# Altium schematic symbol library my_Schlib.SchLib: 48 symbols
Pins are listed as number, name and electrical type; pins without a type are passive.

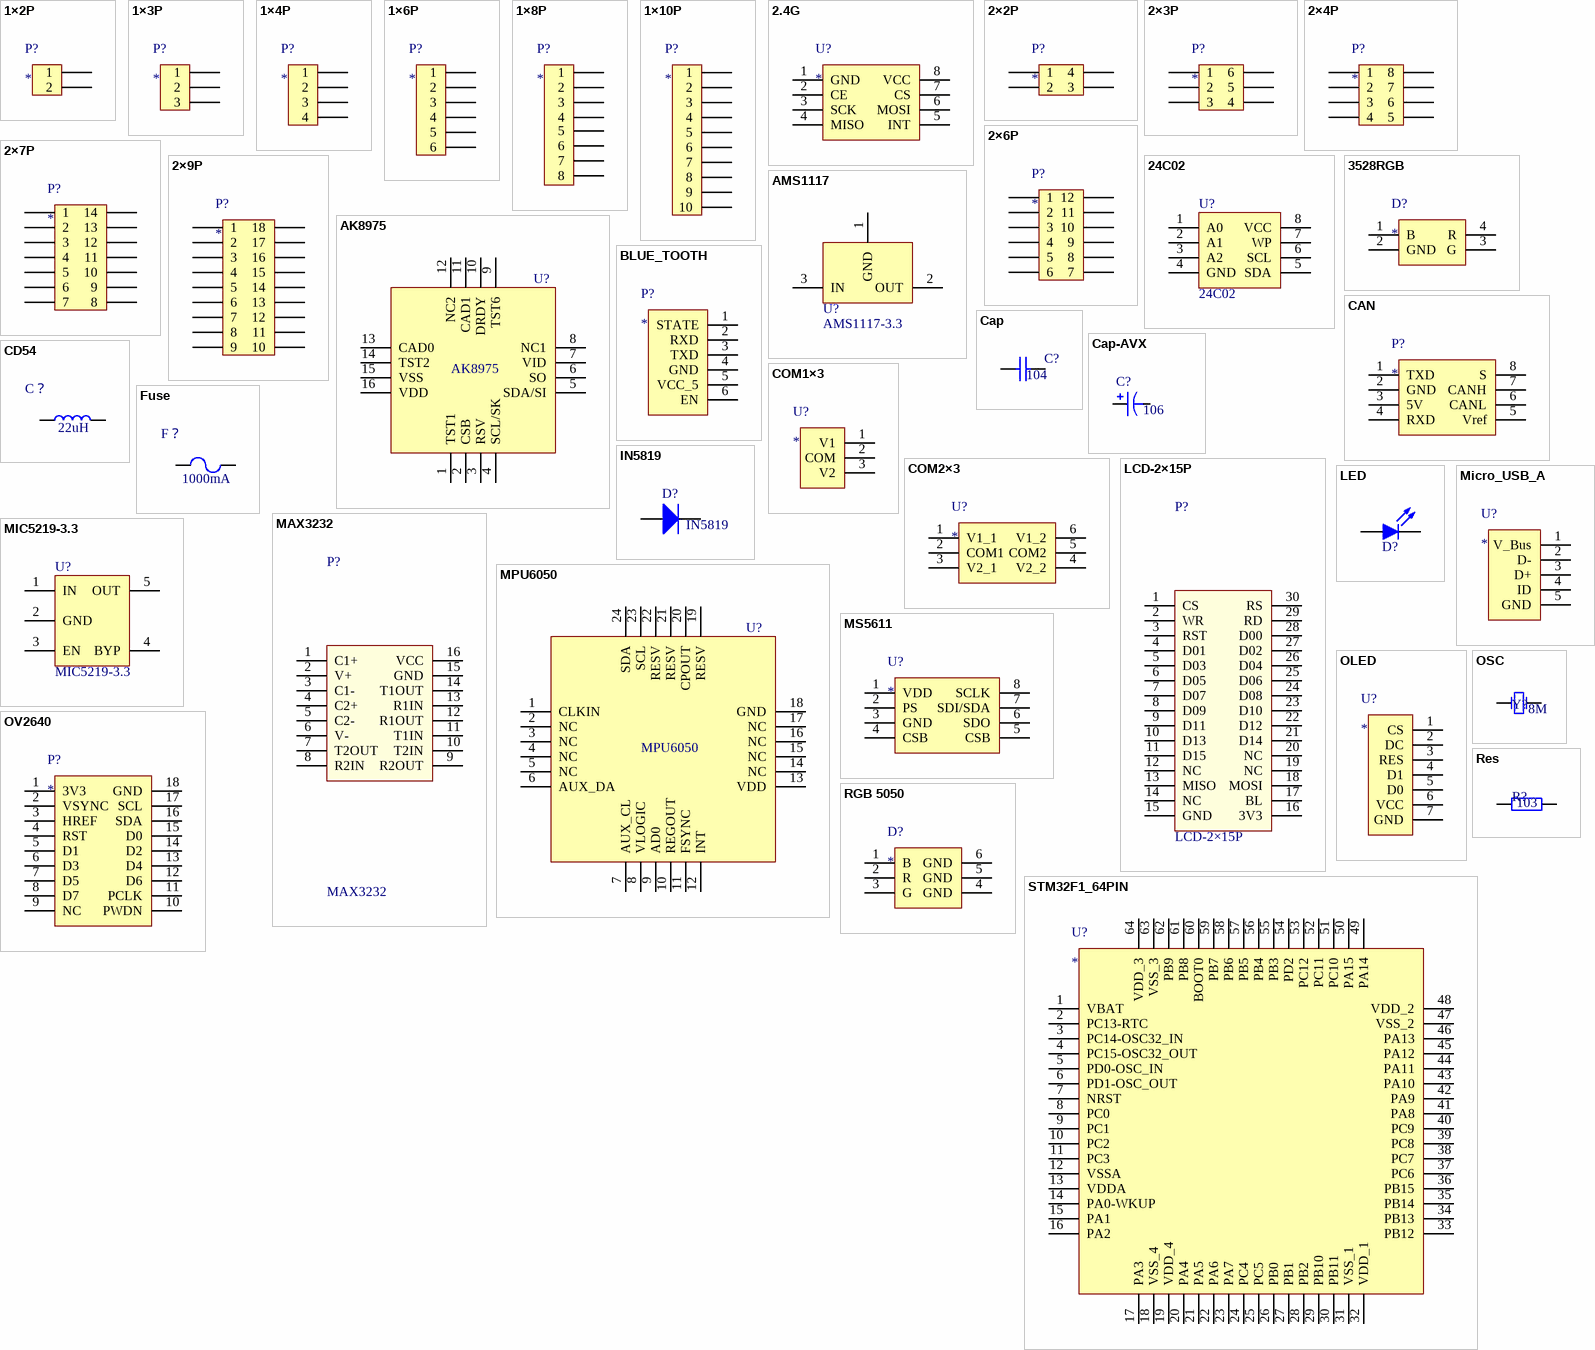
[diagram p0: symbols 1×2P to STM32F1_64PIN]

## 1×2P
designator P?
footprint 1×2P
pins: 1, 2

## 1×3P
designator P?
footprint 1×3P
pins: 1, 2, 3

## 1×4P
designator P?
footprint 1×4P_SG
footprint 1×4P
pins: 1, 2, 3, 4

## 1×6P
designator P?
footprint 1×6P
pins: 1, 2, 3, 4, 5, 6

## 1×8P
designator P?
footprint 1×8P_SG
pins: 1, 2, 3, 4, 5, 6, 7, 8

## 1×10P
designator P?
footprint 1×10P_SG
pins: 1, 2, 3, 4, 5, 6, 7, 8, 9, 10

## 2.4G
designator U?
footprint 2×4P _SG
pins: 1 GND, 2 CE, 3 SCK, 4 MISO, 5 INT, 6 MOSI, 7 CS, 8 VCC

## 2×2P
designator P?
footprint 2×2P
pins: 1, 2, 3, 4

## 2×3P
designator P?
footprint 2×3P
footprint 2×4P _SG
pins: 1, 2, 3, 4, 5, 6

## 2×4P
designator P?
footprint 2×4P
footprint 2×4P _SG
pins: 1, 2, 3, 4, 5, 6, 7, 8

## 2×6P
designator P?
footprint 2×6P
pins: 1, 2, 3, 4, 5, 6, 7, 8, 9, 10, 11, 12

## 2×7P
designator P?
footprint 2×7P
pins: 1, 2, 3, 4, 5, 6, 7, 8, 9, 10, 11, 12, 13, 14

## 2×9P
designator P?
footprint 2×9P
pins: 1, 2, 3, 4, 5, 6, 7, 8, 9, 10, 11, 12, 13, 14, 15, 16, 17, 18

## 24C02
designator U?
footprint SOP8
pins: 1 A0, 2 A1, 3 A2, 4 GND, 5 SDA, 6 SCL, 7 WP, 8 VCC

## 3528RGB
designator D?
footprint 3528RGB
pins: 1 B, 2 GND, 3 G, 4 R

## AK8975
designator U?
footprint AK8975
pins: 1 TST1 "0:SPI,1:IIC", 2 CSB "0:SPI,1:IIC", 3 RSV "0:SPI,1:IIC", 4 SCL/SK "0:SPI,1:IIC", 5 SDA/SI "0:SPI,1:IIC", 6 SO "0:SPI,1:IIC", 7 VID "0:SPI,1:IIC", 8 NC1 "0:SPI,1:IIC", 9 TST6 "0:SPI,1:IIC", 10 DRDY "0:SPI,1:IIC", 11 CAD1 "0:SPI,1:IIC", 12 NC2 "0:SPI,1:IIC", 13 CAD0 "0:SPI,1:IIC", 14 TST2 "0:SPI,1:IIC", 15 VSS "0:SPI,1:IIC", 16 VDD "0:SPI,1:IIC"

## AMS1117
designator U?, comment AMS1117-3.3
footprint SOT-223/TO-261AA
pins: 1 GND, 2 OUT, 3 IN

## BLUE_TOOTH
designator P?
footprint 1×6P
pins: 1 STATE, 2 RXD, 3 TXD, 4 GND, 5 VCC_5, 6 EN

## CAN
designator P?
footprint SOP8
pins: 1 TXD, 2 GND, 3 5V, 4 RXD, 5 Vref, 6 CANL, 7 CANH, 8 S

## Cap
designator C?, comment value 104  (hidden comment: Cap Semi)
footprint Cap 0603
footprint Cap 1210
footprint Cap 1812
footprint CAP 1206
pins: 1, 2

## Cap-AVX
designator C?  value 106  (hidden comment: Cap-AVX)
footprint AVX A-CASE 1206
footprint AVX B-CASE 3528
footprint AVX D-CASE 7343
pins: 1, 2

## CD54
designator C？  value 22uH  (hidden comment: CD54)
footprint CD54 7*7
pins: 1, 2

## COM1×3
designator U?
footprint COM_0603
footprint 1×3P
pins: 1 V1, 2 COM, 3 V2

## COM2×3
designator U?
footprint XTAL 3.2x1.3
pins: 1 V1_1, 2 COM1, 3 V2_1, 4 V2_2, 5 COM2, 6 V1_2

## Fuse
designator F？  value 1000mA  (hidden comment: Fuse)
footprint 0805
pins: 1, 2

## IN5819
designator D?
Value: IN5819
footprint SOD-323
pins: 1 A, 2 K

## LCD-2×15P
designator P?
footprint LCD-2×15P
pins: 1 CS, 2 WR, 3 RST, 4 D01, 5 D03, 6 D05, 7 D07, 8 D09, 9 D11, 10 D13, 11 D15, 12 NC, 13 MISO, 14 NC, 15 GND, 16 3V3, 17 BL, 18 MOSI, 19 NC, 20 NC, 21 D14, 22 D12, 23 D10, 24 D08, 25 D06, 26 D04, 27 D02, 28 D00, 29 RD, 30 RS

## LED
designator D?  (value not drawn)
footprint led 0603 B
footprint led 0603 G
footprint led 0603 R
pins: 1, 2

## MAX3232
designator P?
footprint SOP-16
pins: 1 C1+, 2 V+, 3 C1-, 4 C2+, 5 C2-, 6 V-, 7 T2OUT, 8 R2IN, 9 R2OUT, 10 T2IN, 11 T1IN, 12 R1OUT, 13 R1IN, 14 T1OUT, 15 GND, 16 VCC

## MIC5219-3.3
designator U?
footprint MIC5219-3.3 (SOT23, 5-Leads)
pins: 1 IN, 2 GND, 3 EN, 4 BYP, 5 OUT

## Micro_USB_A
designator U?
footprint Micro_USB_A
pins: 1 V_Bus, 2 D-, 3 D+, 4 ID, 5 GND

## MPU6050
designator U?
footprint MPU6050 (QFN, 24-Leads, Body 4.0x4.0mm, Pitch 0.5mm)
pins: 1 CLKIN, 2 NC, 3 NC, 4 NC, 5 NC, 6 AUX_DA, 7 AUX_CL, 8 VLOGIC, 9 AD0, 10 REGOUT, 11 FSYNC, 12 INT, 13 VDD, 14 NC, 15 NC, 16 NC, 17 NC, 18 GND, 19 RESV, 20 CPOUT, 21 RESV, 22 RESV, 23 SCL, 24 SDA

## MS5611
designator U?
footprint MS5611
pins: 1 VDD, 2 PS, 3 GND, 4 CSB, 5 CSB, 6 SDO, 7 SDI/SDA, 8 SCLK

## OLED
designator U?
footprint OLED(0.96) IIC
pins: 1 CS, 2 DC, 3 RES, 4 D1, 5 D0, 6 VCC, 7 GND

## OSC
designator Y?  value 8M  (hidden comment: OSC)
footprint HC-49S
footprint OSC 5032
pins: 1 OSC1, 2 OSC2

## OV2640
designator P?
footprint 2×9P_SG
pins: 1 3V3, 2 VSYNC, 3 HREF, 4 RST, 5 D1, 6 D3, 7 D5, 8 D7, 9 NC, 10 PWDN, 11 PCLK, 12 D6, 13 D4, 14 D2, 15 D0, 16 SDA, 17 SCL, 18 GND

## Res
designator R?  value 103  (hidden comment: Res)
footprint Res 0603
pins: 1, 2

## RGB 5050
designator D?
footprint RGB 5050
pins: 1 B, 2 R, 3 G, 4 GND, 5 GND, 6 GND

## STM32F1_64PIN
designator U?
footprint LQFP64 (Thin QFP, 64-Leads, Body 10x10mm, Pitch 0.5mm, IPC Low Density)
pins: 1 VBAT, 2 PC13-RTC, 3 PC14-OSC32_IN, 4 PC15-OSC32_OUT, 5 PD0-OSC_IN, 6 PD1-OSC_OUT, 7 NRST, 8 PC0, 9 PC1, 10 PC2, 11 PC3, 12 VSSA, 13 VDDA, 14 PA0-WKUP, 15 PA1, 16 PA2, 17 PA3, 18 VSS_4, 19 VDD_4, 20 PA4, 21 PA5, 22 PA6, 23 PA7, 24 PC4, 25 PC5, 26 PB0, 27 PB1, 28 PB2, 29 PB10, 30 PB11, 31 VSS_1, 32 VDD_1, 33 PB12, 34 PB13, 35 PB14, 36 PB15, 37 PC6, 38 PC7, 39 PC8, 40 PC9, 41 PA8, 42 PA9, 43 PA10, 44 PA11, 45 PA12, 46 PA13, 47 VSS_2, 48 VDD_2, 49 PA14, 50 PA15, 51 PC10, 52 PC11, 53 PC12, 54 PD2, 55 PB3, 56 PB4, 57 PB5, 58 PB6, 59 PB7, 60 BOOT0, 61 PB8, 62 PB9, 63 VSS_3, 64 VDD_3

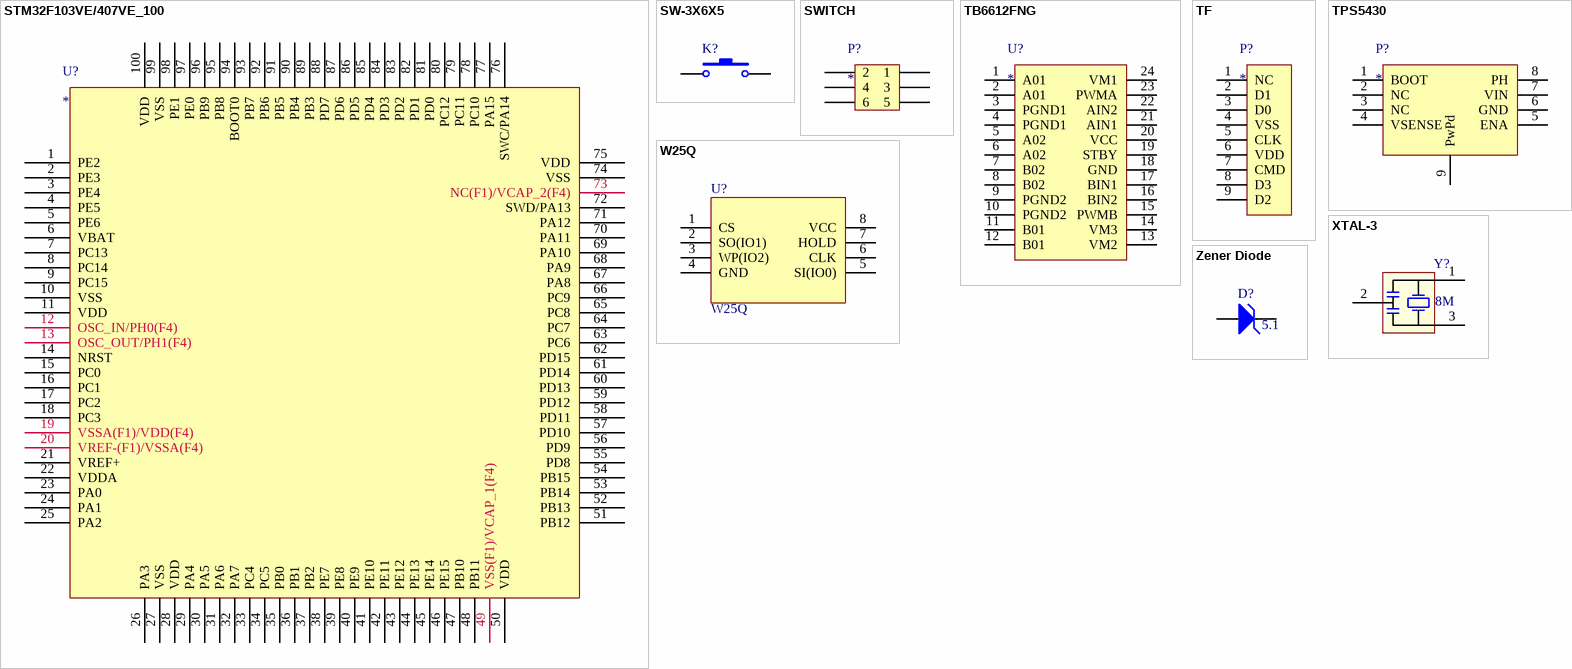
[diagram p1: symbols STM32F103VE/407VE_100 to Zener Diode]

## STM32F103VE/407VE_100
designator U?
footprint LQFP100 (Thin QFP, 100-Leads, Body 14x14mm, Pitch 0.5mm, IPC Low Density)
pins: 1 PE2, 2 PE3, 3 PE4, 4 PE5, 5 PE6, 6 VBAT, 7 PC13, 8 PC14, 9 PC15, 10 VSS, 11 VDD, 12 OSC_IN/PH0(F4), 13 OSC_OUT/PH1(F4), 14 NRST, 15 PC0, 16 PC1, 17 PC2, 18 PC3, 19 VSSA(F1)/VDD(F4), 20 VREF-(F1)/VSSA(F4), 21 VREF+, 22 VDDA, 23 PA0, 24 PA1, 25 PA2, 26 PA3, 27 VSS, 28 VDD, 29 PA4, 30 PA5, 31 PA6, 32 PA7, 33 PC4, 34 PC5, 35 PB0, 36 PB1, 37 PB2, 38 PE7, 39 PE8, 40 PE9, 41 PE10, 42 PE11, 43 PE12, 44 PE13, 45 PE14, 46 PE15, 47 PB10, 48 PB11, 49 VSS(F1)/VCAP_1(F4), 50 VDD, 51 PB12, 52 PB13, 53 PB14, 54 PB15, 55 PD8, 56 PD9, 57 PD10, 58 PD11, 59 PD12, 60 PD13, 61 PD14, 62 PD15, 63 PC6, 64 PC7, 65 PC8, 66 PC9, 67 PA8, 68 PA9, 69 PA10, 70 PA11, 71 PA12, 72 SWD/PA13, 73 NC(F1)/VCAP_2(F4), 74 VSS, 75 VDD, 76 SWC/PA14, 77 PA15, 78 PC10, 79 PC11, 80 PC12, 81 PD0, 82 PD1, 83 PD2, 84 PD3, 85 PD4, 86 PD5, 87 PD6, 88 PD7, 89 PB3, 90 PB4, 91 PB5, 92 PB6, 93 PB7, 94 BOOT0, 95 PB8, 96 PB9, 97 PE0, 98 PE1, 99 VSS, 100 VDD

## SW-3X6X5
designator K?  (value not drawn)
footprint SW-3X6X5
pins: 1, 2

## SWITCH
designator P?
footprint SWITCH(S)
pins: 1, 2, 3, 4, 5, 6

## TB6612FNG
designator U?
footprint SSOP-24N
pins: 1 A01, 2 A01, 3 PGND1, 4 PGND1, 5 A02, 6 A02, 7 B02, 8 B02, 9 PGND2, 10 PGND2, 11 B01, 12 B01, 13 VM2, 14 VM3, 15 PWMB, 16 BIN2, 17 BIN1, 18 GND, 19 STBY, 20 VCC, 21 AIN1, 22 AIN2, 23 PWMA, 24 VM1

## TF
designator P?
footprint TF
pins: 1 NC, 2 D1, 3 D0, 4 VSS, 5 CLK, 6 VDD, 7 CMD, 8 D3, 9 D2

## TPS5430
designator P?
footprint TPS5430 (SOP8)
pins: 1 BOOT, 2 NC, 3 NC, 4 VSENSE, 5 ENA, 6 GND, 7 VIN, 8 PH, 9 PwPd

## W25Q
designator U?
footprint WSON-8-6x5
pins: 1 CS, 2 SO(IO1), 3 WP(IO2), 4 GND, 5 SI(IO0), 6 CLK, 7 HOLD, 8 VCC

## XTAL-3
designator Y?  value 8M  (hidden comment: XTAL-3)
footprint XTAL 3.2x1.3
pins: 1 "0:SPI,1:IIC", 2 "0:SPI,1:IIC", 3 "0:SPI,1:IIC"

## Zener Diode
designator D?  value 5.1  (hidden comment: Zener Diode)
footprint SOD-323
pins: 1 A, 2 K